# Altium schematic symbol library JCLib.SchLib: 59 symbols
Pins are listed as number, name and electrical type; pins without a type are passive.

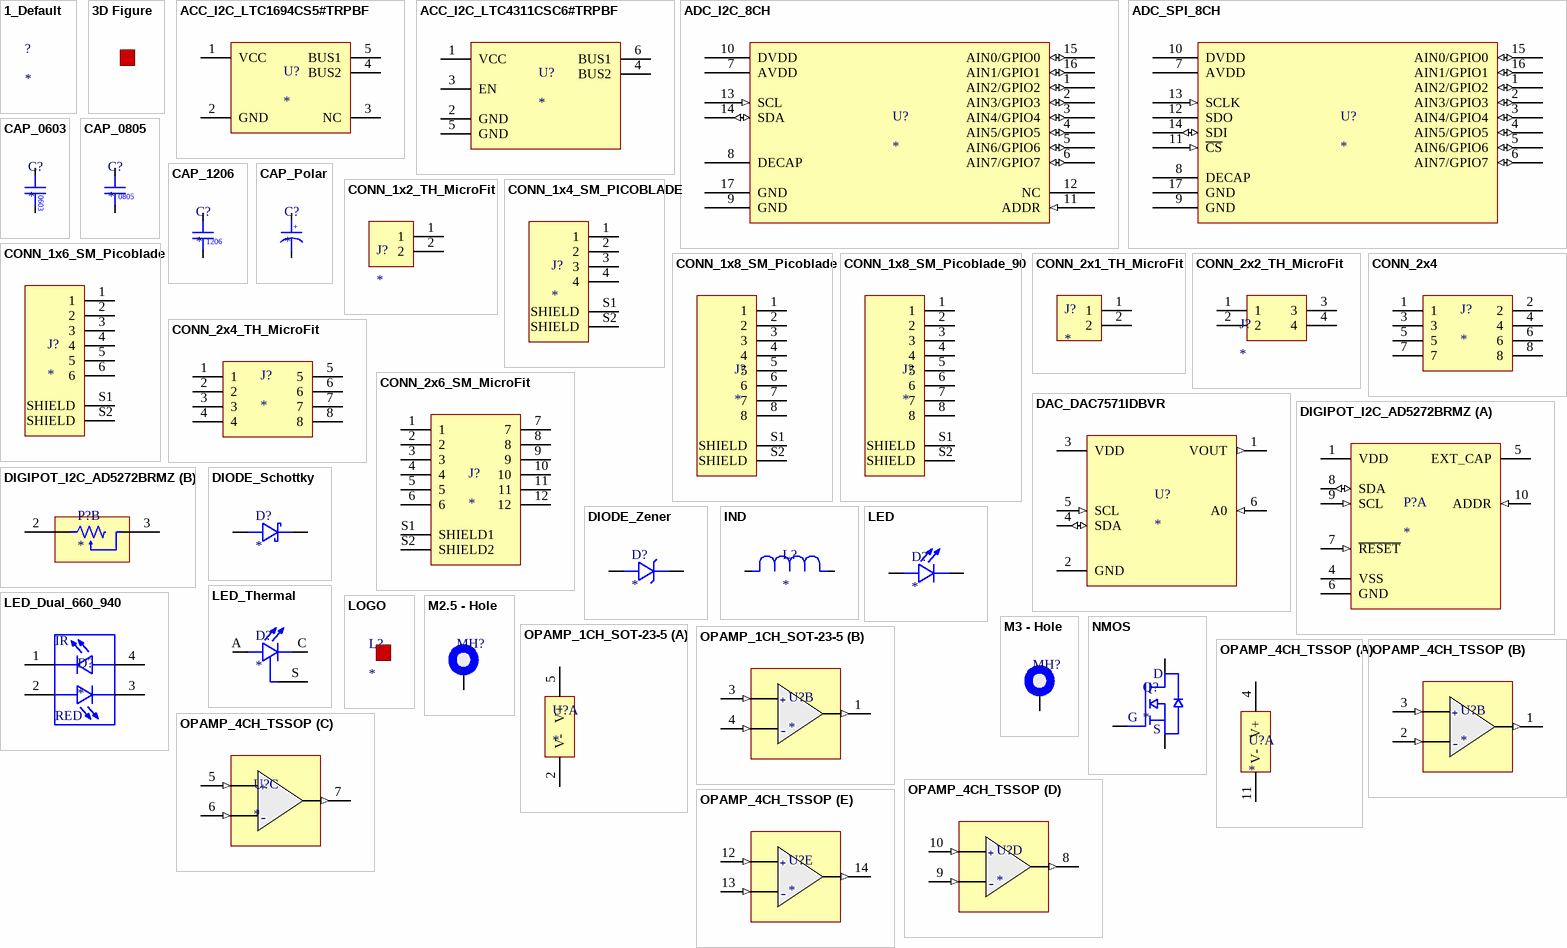
[diagram p0: symbols 1_Default to OPAMP_4CH_TSSOP]

## 1_Default
designator ?
MFG: *; MFG_PN: *; DIST: *; DIST_PN: *; MSL: *; LINK: *; SuppliersPartNumber: *

## 3D Figure
designator ?

## ACC_I2C_LTC1694CS5#TRPBF
designator U?
Buffer, Accelerator 1 Channel 400kHz TSOT-23-5; MFG: Analog Devices; MFG_PN: LTC1694CS5#TRPBF; DIST: Digikey; DIST_PN: LTC1694CS5#TRPBFCT-ND; MSL: 1; LINK: https://www.digikey.com/en/products/detail/analog-devices-inc/LTC1694CS5-TRPBF/960060; SuppliersPartNumber: *
footprint SOT-23-5
pins: 1 VCC (power), 2 GND (power), 3 NC (power), 4 BUS2 (power), 5 BUS1 (power)

## ACC_I2C_LTC4311CSC6#TRPBF
designator U?
IC ACCELERATOR I2C 1CH SC70-6; MFG: Analog Devices; MFG_PN: LTC4311CSC6#TRPBF; DIST: Digikey; DIST_PN: LTC4311CSC6#TRPBFCT-ND; MSL: 1; LINK: https://www.digikey.com/en/products/detail/analog-devices-inc/LTC4311CSC6-TRPBF/1814490; SuppliersPartNumber: *
pins: 1 VCC (power), 2 GND (power), 3 EN (power), 4 BUS2 (power), 5 GND (power), 6 BUS1 (power)

## ADC_I2C_8CH
designator U?
12 Bit Analog to Digital Converter 8 Input 1 SAR 16-WQFN (3x3); MFG: Texas Instruments; MFG_PN: TLA2528IRTER; DIST: Digikey; DIST_PN: 296-TLA2528IRTERCT-ND; MSL: 1; LINK: https://www.digikey.com/en/products/detail/texas-instruments/TLA2528IRTER/12328606?s=N4IgTCBcDaICoBkCCYCsYAcBJASnAojiALoC%2BQA; SuppliersPartNumber: C2866175
footprint 16-WQFN (3x3)
pins: 1 AIN2/GPIO2 (io), 2 AIN3/GPIO3 (io), 3 AIN4/GPIO4 (io), 4 AIN5/GPIO5 (io), 5 AIN6/GPIO6 (io), 6 AIN7/GPIO7 (io), 7 AVDD (power), 8 DECAP (power), 9 GND (power), 10 DVDD (power), 11 ADDR (in), 12 NC, 13 SCL (in), 14 SDA (io), 15 AIN0/GPIO0 (io), 16 AIN1/GPIO1 (io), 17 GND (power)

## ADC_SPI_8CH
designator U?
12 Bit Analog to Digital Converter 8 Input 1 SAR 16-WQFN (3x3); MFG: Texas Instruments; MFG_PN: TLA2518IRTER; DIST: Digikey; DIST_PN: 296-TLA2518IRTERCT-ND; MSL: 1; LINK: https://www.digikey.com/en/products/detail/texas-instruments/TLA2518IRTER/11502192?s=N4IgTCBcDaICoBkCCYCsBGAHASQEpwFFcQBdAXyA
footprint 16-WQFN (3x3)
pins: 1 AIN2/GPIO2 (io), 2 AIN3/GPIO3 (io), 3 AIN4/GPIO4 (io), 4 AIN5/GPIO5 (io), 5 AIN6/GPIO6 (io), 6 AIN7/GPIO7 (io), 7 AVDD (power), 8 DECAP (power), 9 GND (power), 10 DVDD (power), 11 ~{CS} (in), 12 SDO, 13 SCLK (in), 14 SDI (io), 15 AIN0/GPIO0 (io), 16 AIN1/GPIO1 (io), 17 GND (power)

## CAP_0603
designator C?
MFG: *; MFG_PN: *; DIST: *; DIST_PN: *; MSL: *; LINK: *
footprint CAP_0603
pins: 1, 2
text: 0603

## CAP_0805
designator C?
MFG: *; MFG_PN: *; DIST: *; DIST_PN: *; MSL: *; LINK: *
pins: 1, 2
text: 0805

## CAP_1206
designator C?
MFG: *; MFG_PN: *; DIST: *; DIST_PN: *; MSL: *; LINK: *
footprint CAP_1206
pins: 1, 2
text: 1206

## CAP_Polar
designator C?
MFG: *; MFG_PN: *; DIST: *; DIST_PN: *; MSL: *; LINK: *
pins: +, -

## CONN_1x2_TH_MicroFit
designator J?
Connector Header Through Hole, Right Angle 2 position; MFG: MOLEX; MFG_PN: 0430450200; DIST: Digikey; DIST_PN: WM1813-ND; Mating MFG_PN: 0430250200; MSL: 1; LINK: https://www.digikey.com/en/products/detail/molex/0430450200/252526; SuppliersPartNumber: *
footprint CONN_1x2_TH_MICROFIT
pins: 1, 2

## CONN_1x4_SM_PICOBLADE
designator J?
Connector Header Surface Mount, Right Angle 4 position 0.049" (1.25mm); MFG: Molex; MFG_PN: 0532610471; DIST: Digikey; DIST_PN: WM7622CT-ND; MSL: 1; LINK: https://www.digikey.com/en/products/detail/molex/0532610471/699096; SuppliersPartNumber: *
footprint CONN_1X4_SM_PICOBLADE
pins: 1, 2, 3, 4, S1 SHIELD, S2 SHIELD

## CONN_1x6_SM_Picoblade
designator J?
Connector Header Surface Mount, Right Angle 6 position 0.049" (1.25mm); MFG: Molex; MFG_PN: 0532610671; DIST: Digikey; DIST_PN: WM7624CT-ND; MSL: 1; LINK: https://www.digikey.com/en/products/detail/molex/0532610671/699098; SuppliersPartNumber: *
footprint CONN_1x6_SM_Picoblade
pins: 1, 2, 3, 4, 5, 6, S1 SHIELD, S2 SHIELD

## CONN_1x8_SM_Picoblade
designator J?
Connector Header Surface Mount, Right Angle 8 position 0.049" (1.25mm); MFG: Molex; MFG_PN: 0532610871; DIST: Digikey; DIST_PN: WM7626CT-ND; MSL: 1; LINK: https://www.digikey.com/en/products/detail/molex/0532610871/699100; SuppliersPartNumber: *
footprint CONN_1x8_SM_PICOBLADE
pins: 1, 2, 3, 4, 5, 6, 7, 8, S1 SHIELD, S2 SHIELD

## CONN_1x8_SM_Picoblade_90
designator J?
Connector Header Surface Mount 8 position 0.049" (1.25mm); MFG: Molex; MFG_PN: 0533980871; DIST: Digikey; DIST_PN: WM7612CT-ND; MSL: 1; LINK: https://www.digikey.com/en/products/detail/molex/0533980871/699072; SuppliersPartNumber: *
footprint CONN_1X8_SM_PICOBLADE_90
pins: 1, 2, 3, 4, 5, 6, 7, 8, S1 SHIELD, S2 SHIELD

## CONN_2x1_TH_MicroFit
designator J?
Connector Header Through Hole, Right Angle 2 position 0.118" (3.00mm); MFG: Molex; MFG_PN: 0436500200; DIST: Digikey; DIST_PN: WM1860-ND; MSL: 1; LINK: https://www.digikey.com/en/products/detail/molex/0436500200/268989; SuppliersPartNumber: *
footprint CONN_2X1_TH_MICROFIT
pins: 1, 2

## CONN_2x2_TH_MicroFit
designator J?
Connector Header Through Hole, Right Angle 4 position 0.118" (3.00mm); MFG: Molex; MFG_PN: 0430450400; DIST: Digikey; DIST_PN: WM1814-ND; MSL: 1; LINK: https://www.digikey.com/en/products/detail/molex/0430450400/252527; SuppliersPartNumber: *
footprint CONN_2X2_TH_MICROFIT
pins: 1, 2, 3, 4

## CONN_2x4
designator J?
MFG: *; MFG_PN: *; DIST: *; DIST_PN: *; MSL: *; LINK: *; SuppliersPartNumber: *
pins: 1, 2, 3, 4, 5, 6, 7, 8

## CONN_2x4_TH_MicroFit
designator J?
Connector Header Through Hole, Right Angle 8 position 0.118" (3.00mm); MFG: Molex; MFG_PN: 0430450800; DIST: Digikey; DIST_PN: WM1816-ND; MSL: 1; LINK: https://www.digikey.com/en/products/detail/molex/0430450800/252529; SuppliersPartNumber: *
footprint CONN_2x4_TH_MICROFIT
pins: 1, 2, 3, 4, 5, 6, 7, 8

## CONN_2x6_SM_MicroFit
designator J?
Surface mount 12 pos male microFit connector; MFG: MOLEX; MFG_PN: 0430451218; DIST: DIGIKEY; DIST_PN: 23-0430451218CT-ND; MSL: 1; ComponentLink1Description: DIST_LINK; ComponentLink1URL: https://www.digikey.com/en/products/detail/molex/0430451218/5043826
footprint MOLEX_430451218
footprint CONN_2x6_SM_MicroFit
pins: 1, 2, 3, 4, 5, 6, 7, 8, 9, 10, 11, 12, S1 SHIELD1, S2 SHIELD2

## DAC_DAC7571IDBVR
designator U?
12 Bit Digital to Analog Converter 1 SOT-23-6; MFG: Texas Instruments; MFG_PN: DAC7571IDBVR; DIST: Digikey; DIST_PN: 296-26047-1-ND; MSL: 1; LINK: https://www.digikey.com/en/products/detail/texas-instruments/DAC7571IDBVR/1509090; SuppliersPartNumber: *
footprint SOT-23-6
pins: 1 VOUT (out), 2 GND (power), 3 VDD (power), 4 SDA (io), 5 SCL (in), 6 A0 (in)

## DIGIPOT_I2C_AD5272BRMZ
designator P?
Digital Potentiometer 100k Ohm 1 Circuit 1024 Taps I2C Interface 10-MSOP; MFG: Analog Devices; MFG_PN: AD5272BRMZ-100-RL7; DIST: Digikey; DIST_PN: 505-AD5272BRMZ-100-RL7CT-ND; MSL: 1; LINK: https://www.digikey.com/en/products/detail/analog-devices-inc/AD5272BRMZ-100-RL7/2606568; SuppliersPartNumber: C208055
footprint 10-MSOP (3)
part A pins: 1 VDD (power), 4 VSS (power), 5 EXT_CAP, 6 GND, 7 ~{RESET} (in), 8 SDA (io), 9 SCL (in), 10 ADDR (in)
part B pins: 2 A, 3 W

## DIODE_Schottky
designator D?
Schottky Diode; MFG: *; MFG_PN: *; DIST: *; DIST_PN: *; MSL: *; LINK: *; SuppliersPartNumber: *
pins: A, C

## DIODE_Zener
designator D?
Zener Diode; MFG: *; MFG_PN: *; DIST: *; DIST_PN: *; MSL: *; LINK: *; SuppliersPartNumber: *
pins: A, C

## IND
designator L?
MFG: *; MFG_PN: *; DIST: *; DIST_PN: *; MSL: *; LINK: *; SuppliersPartNumber: *
pins: 1, 2

## LED
designator D?
MFG: *; MFG_PN: *; DIST: *; DIST_PN: *; MSL: *; LINK: *; SuppliersPartNumber: *
pins: A, C

## LED_Dual_660_940
designator D?
Infrared (IR), Visible Emitter 940nm, 660nm 1.4V, 2V 70mA 120° 2-SMD, No Lead; MFG: Vishay; MFG_PN: VSMD66694; DIST: Digikey; DIST_PN: VSMD66694CT-ND; MSL: 3; LINK: https://www.digikey.com/en/products/detail/vishay-semiconductor-opto-division/VSMD66694/6051070; SuppliersPartNumber: C511435
footprint LED_Dual_VSMD66694 (Infrared (IR), Visible Emitter 940nm, 660nm 1.4V, 2V 70mA 120° 2-SMD, No Lead)
pins: 1, 2, 3, 4
text: IR; RED

## LED_Thermal
designator D?
MFG: *; MFG_PN: *; DIST: *; DIST_PN: *; MSL: *; LINK: *; SuppliersPartNumber: *
pins: A, C, S THERMAL

## LOGO
designator L?
footprint LOGO (Science Logo)

## M2.5 - Hole
designator MH?
footprint M2.5 - Hole
pins: 1

## M3 - Hole
designator MH?
footprint M3 - Hole
pins: 1

## NMOS
designator Q?
MFG: *; MFG_PN: *; DIST: *; DIST_PN: *; MSL: *; LINK: *; SuppliersPartNumber: *
pins: D Drain, G Gate, S Source

## OPAMP_1CH_SOT-23-5
designator U?
General Purpose Amplifier 1 Circuit Rail-to-Rail SOT-23-5; MFG: Microchip Technology; MFG_PN: MCP6001T-I/OT; DIST: Digikey; DIST_PN: MCP6001T-I/OTCT-ND; MSL: 1; LINK: https://www.digikey.com/en/products/detail/microchip-technology/MCP6001T-I-OT/551760; SuppliersPartNumber: *
footprint SOT-23-5
part A pins: 2 V- (power), 5 V+ (power)
part B pins: 1 OUTA (out), 3 +INA (in), 4 -INA (in)
part B text: +; -

## OPAMP_4CH_TSSOP
designator U?
MFG: *; MFG_PN: *; DIST: *; DIST_PN: *; MSL: *; LINK: *; SuppliersPartNumber: *
footprint 14-TSSOP (4.4)
part A pins: 4 V+ (power), 11 V- (power)
part B pins: 1 OUTA (out), 2 -INA (in), 3 +INA (in)
part C pins: 5 +INB (in), 6 -INB (in), 7 OUTB (out)
part D pins: 8 OUTC (out), 9 -INC (in), 10 +INC (in)
part E pins: 12 +IND (in), 13 -IND (in), 14 OUTD (out)
part B text: +; -
part C text: +; -
part D text: +; -
part E text: +; -

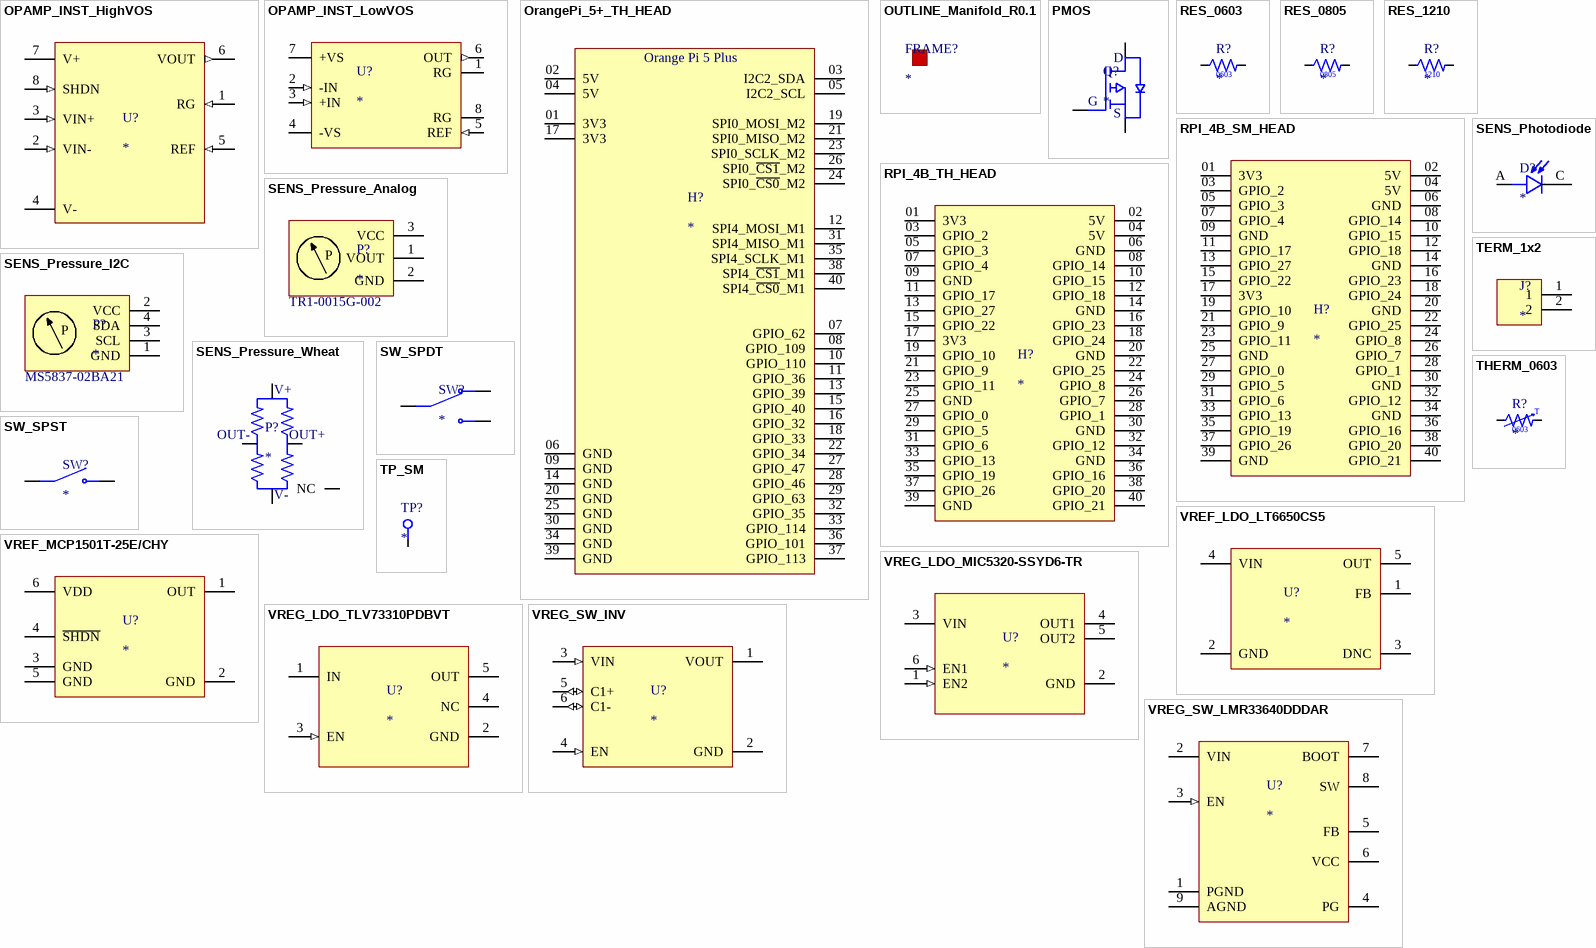
[diagram p1: symbols OPAMP_INST_HighVOS to VREG_SW_LMR33640DDDAR]

## OPAMP_INST_HighVOS
designator U?
Instrumentation Amplifier 1 Circuit Rail-to-Rail 8-VSSOP, 1mV Input Offset; MFG: Texas Instruments; MFG_PN: INA332AIDGKR; DIST: Digikey; DIST_PN: 296-41265-1-ND; MSL: 1; LINK: https://www.digikey.com/en/products/detail/texas-instruments/INA332AIDGKR/1509895; SuppliersPartNumber: *
footprint 8-MSOP (3)
pins: 1 RG (in), 2 VIN- (in), 3 VIN+ (in), 4 V- (power), 5 REF (in), 6 VOUT (out), 7 V+ (power), 8 SHDN (in)

## OPAMP_INST_LowVOS
designator U?
Instrumentation Amplifier 1 Circuit 8-SOIC, 20uV Input Offset; MFG: Texas Instruments; MFG_PN: INA823DR; DIST: Digikey; DIST_PN: 296-INA823DRCT-ND; MSL: 2; LINK: https://www.digikey.com/en/products/detail/texas-instruments/INA823DR/15853913; SuppliersPartNumber: *
footprint 8-SOIC (3.9)
pins: 1 RG, 2 -IN (in), 3 +IN (in), 4 -VS (power), 5 REF (in), 6 OUT (out), 7 +VS (power), 8 RG

## OrangePi_5+_TH_HEAD
designator H?
40 Position Elevated Socket Connector 0.100" (2.54mm) Through Hole Tin.; MFG: Samtec Inc; MFG_PN: ESW-120-44-T-D; DIST: Digikey; DIST_PN: SAM15606-ND; MSL: 1; LINK: https://www.digikey.com/en/products/detail/samtec-inc/ESW-120-44-T-D/7208869; SuppliersPartNumber: *
footprint HEAD_40Pin_Female_TH (40 Pin Female 2.54mm Pitch Through Hole Header)
pins: 01 3V3, 02 5V, 03 I2C2_SDA, 04 5V, 05 I2C2_SCL, 06 GND, 07 GPIO_62, 08 GPIO_109, 09 GND, 10 GPIO_110, 11 GPIO_36, 12 SPI4_MOSI_M1, 13 GPIO_39, 14 GND, 15 GPIO_40, 16 GPIO_32, 17 3V3, 18 GPIO_33, 19 SPI0_MOSI_M2, 20 GND, 21 SPI0_MISO_M2, 22 GPIO_34, 23 SPI0_SCLK_M2, 24 SPI0_~{CS0}_M2, 25 GND, 26 SPI0_~{CS1}_M2, 27 GPIO_47, 28 GPIO_46, 29 GPIO_63, 30 GND, 31 SPI4_MISO_M1, 32 GPIO_35, 33 GPIO_114, 34 GND, 35 SPI4_SCLK_M1, 36 GPIO_101, 37 GPIO_113, 38 SPI4_~{CS1}_M1, 39 GND, 40 SPI4_~{CS0}_M1
text: Orange Pi 5 Plus

## OUTLINE_Manifold_R0.1
designator FRAME?
footprint OUTLINE_Manifold_R0.1 (I2C Pressure Sensor)

## PMOS
designator Q?
MFG: *; MFG_PN: *; DIST: *; DIST_PN: *; MSL: *; LINK: *; SuppliersPartNumber: *
pins: D Drain, G Gate, S Source

## RES_0603
designator R?
MFG: *; MFG_PN: *; DIST: *; DIST_PN: *; MSL: *; LINK: *
footprint RES_0603
pins: 1, 2
text: 0603

## RES_0805
designator R?
MFG: *; MFG_PN: *; DIST: *; DIST_PN: *; MSL: *; LINK: *
footprint RES_0805
pins: 1, 2
text: 0805

## RES_1210
designator R?
MFG: *; MFG_PN: *; DIST: *; DIST_PN: *; MSL: *; LINK: *
footprint RES_1210
pins: 1, 2
text: 1210

## RPI_4B_SM_HEAD
designator H?
40 Position Receptacle, Pass Through Connector 0.100" (2.54mm) Surface Mount Gold. RPI 3D Model; MFG: Samtec Inc; MFG_PN: SSM-120-L-DV-A; DIST: Digikey; DIST_PN: 612-SSM-120-L-DV-A-ND; MSL: 1; LINK: https://www.digikey.com/en/products/detail/samtec-inc/SSM-120-L-DV-A/7861007; SuppliersPartNumber: *
footprint HEAD_40Pin_Female_SM (40 Pin Female 2.54mm Pitch Surface Mount Header)
pins: 01 3V3, 02 5V, 03 GPIO_2, 04 5V, 05 GPIO_3, 06 GND, 07 GPIO_4, 08 GPIO_14, 09 GND, 10 GPIO_15, 11 GPIO_17, 12 GPIO_18, 13 GPIO_27, 14 GND, 15 GPIO_22, 16 GPIO_23, 17 3V3, 18 GPIO_24, 19 GPIO_10, 20 GND, 21 GPIO_9, 22 GPIO_25, 23 GPIO_11, 24 GPIO_8, 25 GND, 26 GPIO_7, 27 GPIO_0, 28 GPIO_1, 29 GPIO_5, 30 GND, 31 GPIO_6, 32 GPIO_12, 33 GPIO_13, 34 GND, 35 GPIO_19, 36 GPIO_16, 37 GPIO_26, 38 GPIO_20, 39 GND, 40 GPIO_21

## RPI_4B_TH_HEAD
designator H?
40 Position Elevated Socket Connector 0.100" (2.54mm) Through Hole Tin.; MFG: Samtec Inc; MFG_PN: ESW-120-44-T-D; DIST: Digikey; DIST_PN: SAM15606-ND; MSL: 1; LINK: https://www.digikey.com/en/products/detail/samtec-inc/ESW-120-44-T-D/7208869; SuppliersPartNumber: *
footprint HEAD_40Pin_Female_TH (40 Pin Female 2.54mm Pitch Through Hole Header)
pins: 01 3V3, 02 5V, 03 GPIO_2, 04 5V, 05 GPIO_3, 06 GND, 07 GPIO_4, 08 GPIO_14, 09 GND, 10 GPIO_15, 11 GPIO_17, 12 GPIO_18, 13 GPIO_27, 14 GND, 15 GPIO_22, 16 GPIO_23, 17 3V3, 18 GPIO_24, 19 GPIO_10, 20 GND, 21 GPIO_9, 22 GPIO_25, 23 GPIO_11, 24 GPIO_8, 25 GND, 26 GPIO_7, 27 GPIO_0, 28 GPIO_1, 29 GPIO_5, 30 GND, 31 GPIO_6, 32 GPIO_12, 33 GPIO_13, 34 GND, 35 GPIO_19, 36 GPIO_16, 37 GPIO_26, 38 GPIO_20, 39 GND, 40 GPIO_21

## SENS_Photodiode
designator D?
Photodiode 940nm 40ns 120° 2-SMD, No Lead; MFG: OSRAM; DIST: Digikey; DIST_PN: 475-SFH2200CT-ND; MFG_PN: SFH 2200; MSL: 2; LINK: https://www.digikey.com/en/products/detail/ams-osram-usa-inc/SFH-2200/7325540; SuppliersPartNumber: C2900212
footprint SENS_SFH_2200
pins: A, C

## SENS_Pressure_Analog
designator P?  MFG_PN: TR1-0015G-002
Analog Pressure Sensor; MFG: Merit Sensor; DIST_PN: TR1-0015G-002; LINK: https://meritsensor.com/products/TR-Series/; MSL: 1; DIST: Merit Sensor
pins: 1 VOUT, 2 GND, 3 VCC
text: P

## SENS_Pressure_I2C
designator P?  MFG_PART: MS5837-02BA21
I2C Pressure Sensor; DIST_PART: 223-1891-1-ND; MFG: TE; DIST: DIGIKEY; LINK: https://www.digikey.com/en/products/detail/te-connectivity-measurement-specialties/MS5837-02BA21/8276465; MSL: 1
footprint SENS_MS5837-02BA21 (Pressure Sensor (I2C))
pins: 1 GND, 2 VCC, 3 SCL, 4 SDA
text: P

## SENS_Pressure_Wheat
designator P?
MFG: Merit Sensor; MFG_PN: BP0002; DIST: Mouser; DIST_PN: 753-BP0002; MSL: 2; LINK: https://www.mouser.com/ProductDetail/Merit-Sensor/BP0002?qs=unwgFEO1A6vZRT930K6b%252Bw%3D%3D; SuppliersPartNumber: *
footprint SENS_BP0002 (Pressure Sensor (Wheatstone Bridge))
pins: IN+, IN-, NC, OUT+, OUT-
text: V+; V-

## SW_SPDT
designator SW?
Singel Pole Dual Throw Switch; MFG: *; MFG_PN: *; DIST: *; DIST_PN: *; MSL: *; LINK: *; SuppliersPartNumber: *
pins: 1 NC, 2 COM, 3 NO

## SW_SPST
designator SW?
MFG: *; MFG_PN: *; DIST: *; DIST_PN: *; MSL: *; LINK: *; SuppliersPartNumber: *
pins: 1, 2

## TERM_1x2
designator J?
Terminal Distribution Block; MFG: *; MFG_PN: *; DIST: *; DIST_PN: *; MSL: *; LINK: *; SuppliersPartNumber: *
pins: 1 (power), 2 (power)

## THERM_0603
designator R?
0603 Thermistor; MFG: *; MFG_PN: *; DIST: *; DIST_PN: *; MSL: *; LINK: *
footprint RES_0603
pins: 1, 2
text: T; 0603

## TP_SM
designator TP?
Surface Mount Test Point; MFG: *; MFG_PN: *; DIST: *; DIST_PN: *; MSL: *; LINK: *; SuppliersPartNumber: *
footprint TP_SM (Surface Mount Test Point)
pins: 1

## VREF_LDO_LT6650CS5
designator U?
Series Voltage Reference IC Fixed 0.4V V ±0.75% 200 µA TSOT-23-5; MFG: Analog Devices; MFG_PN: LT6650CS5#TRMPBF; DIST: Digikey; DIST_PN: 505-LT6650CS5#TRMPBFCT-ND; MSL: 1; LINK: https://www.digikey.com/en/products/detail/analog-devices-inc/LT6650CS5-TRMPBF/961454; SuppliersPartNumber: *
footprint SOT-23-5
pins: 1 FB (power), 2 GND (power), 3 DNC (power), 4 VIN (power), 5 OUT (power)

## VREF_MCP1501T-25E/CHY
designator U?
Series Voltage Reference IC Fixed 2.5V V ±0.1% 20 mA SOT-23-6; MFG: Microchip Technology; MFG_PN: MCP1501T-25E/CHY; DIST: Digikey; DIST_PN: MCP1501T-25E/CHYCT-ND; MSL: 1; LINK: https://www.digikey.com/en/products/detail/microchip-technology/MCP1501T-25E-CHY/5844608; SuppliersPartNumber: *
footprint SOT-23-6
pins: 1 OUT (power), 2 GND (power), 3 GND (power), 4 ~{SHDN} (power), 5 GND (power), 6 VDD (power)

## VREG_LDO_MIC5320-SSYD6-TR
designator U?
Linear Voltage Regulator IC Positive Fixed 2 Output 150mA, 150mA TSOT-23-6; MFG: Microchip Technology; MFG_PN: MIC5320-SSYD6-TR; DIST: Digikey; DIST_PN: 576-1931-1-ND; MSL: 1; LINK: https://www.digikey.com/en/products/detail/microchip-technology/MIC5320-SSYD6-TR/1617092; SuppliersPartNumber: *
footprint SOT-23-6
pins: 1 EN2 (in), 2 GND (power), 3 VIN (power), 4 OUT1 (power), 5 OUT2 (power), 6 EN1 (in)

## VREG_LDO_TLV73310PDBVT
designator U?
Linear Voltage Regulator IC Positive Fixed 1 Output 300mA SOT-23-5; MFG: Texas Instruments; MFG_PN: TLV73310PDBVT; DIST: Digikey; DIST_PN: 296-38484-1-ND; MSL: 1; LINK: https://www.digikey.com/en/products/detail/texas-instruments/TLV73310PDBVT/5023855; SuppliersPartNumber: C2862032
footprint SOT-23-5
pins: 1 IN (power), 2 GND (power), 3 EN (in), 4 NC, 5 OUT (power)

## VREG_SW_INV
designator U?
Charge Pump Switching Regulator IC Negative Fixed -Vin 1 Output 200mA SOT-23-6; MFG: Texas Instruments; MFG_PN: LM2776DBVR; DIST: Digikey; DIST_PN: 296-43957-1-ND; MSL: 1; LINK: https://www.digikey.com/en/products/detail/texas-instruments/LM2776DBVR/5356685; SuppliersPartNumber: C69527
footprint SOT-23-6
pins: 1 VOUT (power), 2 GND (power), 3 VIN (in), 4 EN (in), 5 C1+ (io), 6 C1- (io)

## VREG_SW_LMR33640DDDAR
designator U?
Buck Switching Regulator IC Positive Adjustable 1V 1 Output 4A 8-PowerSOIC (0.154", 3.90mm Width); MFG: Texas Instruments; MFG_PN: LMR33640DDDAR; DIST: Digikey; DIST_PN: 296-LMR33640DDDARCT-ND; MSL: 2; LINK: https://www.digikey.com/en/products/detail/texas-instruments/LMR33640DDDAR/11308833; SuppliersPartNumber: *
footprint 8-SOIC (3.9) - EPAD
pins: 1 PGND (power), 2 VIN (power), 3 EN (in), 4 PG (power), 5 FB (power), 6 VCC (power), 7 BOOT (power), 8 SW (power), 9 AGND (power)